# Altium integrated library MP1584.IntLib: 1 symbol
Pins are listed as number, name and electrical type; pins without a type are passive.

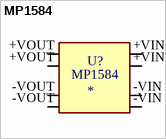
[diagram p0: symbol MP1584]

## MP1584
designator U?
footprint MP1584
pins: +VIN (power), +VIN (power), +VOUT (power), +VOUT (power), -VIN (power), -VIN (power), -VOUT (power), -VOUT (power)